# EAGLE library part 64902229522 (library Wurth_Elektronik_Electromechanic_Wire_to_Board_Connectors_rev15c)
WR-MPC4-4.20mm Male Dual Row Angled Header,22 pins=>Code : WR-MPC4_Stiftbuchse_2reihig_abgewinkelt_64902229522 <http://katalog.we-online.de/media/thumbs2/eican/thb_WR-MPC4_Stiftbuchse_2reihig_abgewinkelt_64901029522.jpg> Details see: http://katalog.we-online.de/en/em/649_0xx_295_22 Created 2014-06-06, Karrer Zheng 2014 (C) Würth Elektronik
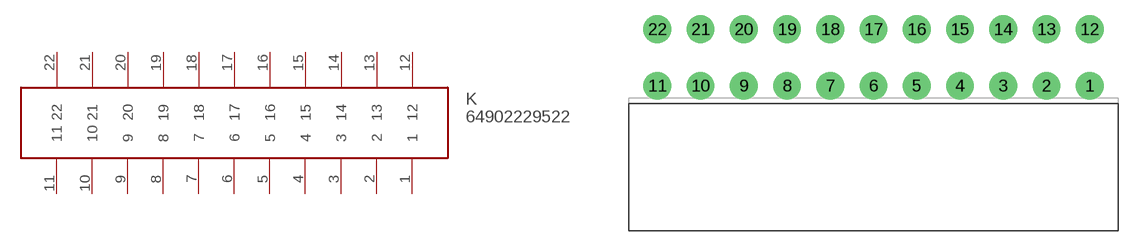
[diagram p319: symbol with the pads of 64902229522; footprint 64902229522]

Designator prefix K

## 64902229522  [64902229522]
1  1
2  2
3  3
4  4
5  5
6  6
7  7
8  8
9  9
10  10
11  11
12  12
13  13
14  14
15  15
16  16
17  17
18  18
19  19
20  20
21  21
22  22

## Footprint 64902229522 (pad centres in mm)
WR-MPC4-4.20mm Male Dual Row Angled Header,22 pins
drill 1.8: 1 23.635,-2.75; 2 19.435,-2.75; 3 15.235,-2.75; 4 11.035,-2.75; 5 6.835,-2.75; 6 2.635,-2.75; 7 -1.565,-2.75; 8 -5.765,-2.75; 9 -9.965,-2.75; 10 -14.165,-2.75; 11 -18.365,-2.75; 12 23.635,2.75; 13 19.435,2.75; 14 15.235,2.75; 15 11.035,2.75; 16 6.835,2.75; 17 2.635,2.75; 18 -1.565,2.75; 19 -5.765,2.75; 20 -9.965,2.75; 21 -14.165,2.75; 22 -18.365,2.75